# Altium footprint library SparkFun-Sensors.PCBLIB: 104 footprints (part 3 of 7)
Each footprint in its own frame and in the unit in brackets; x right, y up, seen from the top. Pads: shape width x height; smd on the part's side, far side on the other; paste and mask are expansions set on the pad; w line width, h text height; cw(c..) or ccw(c..) is an arc to the next point about the centre after c.
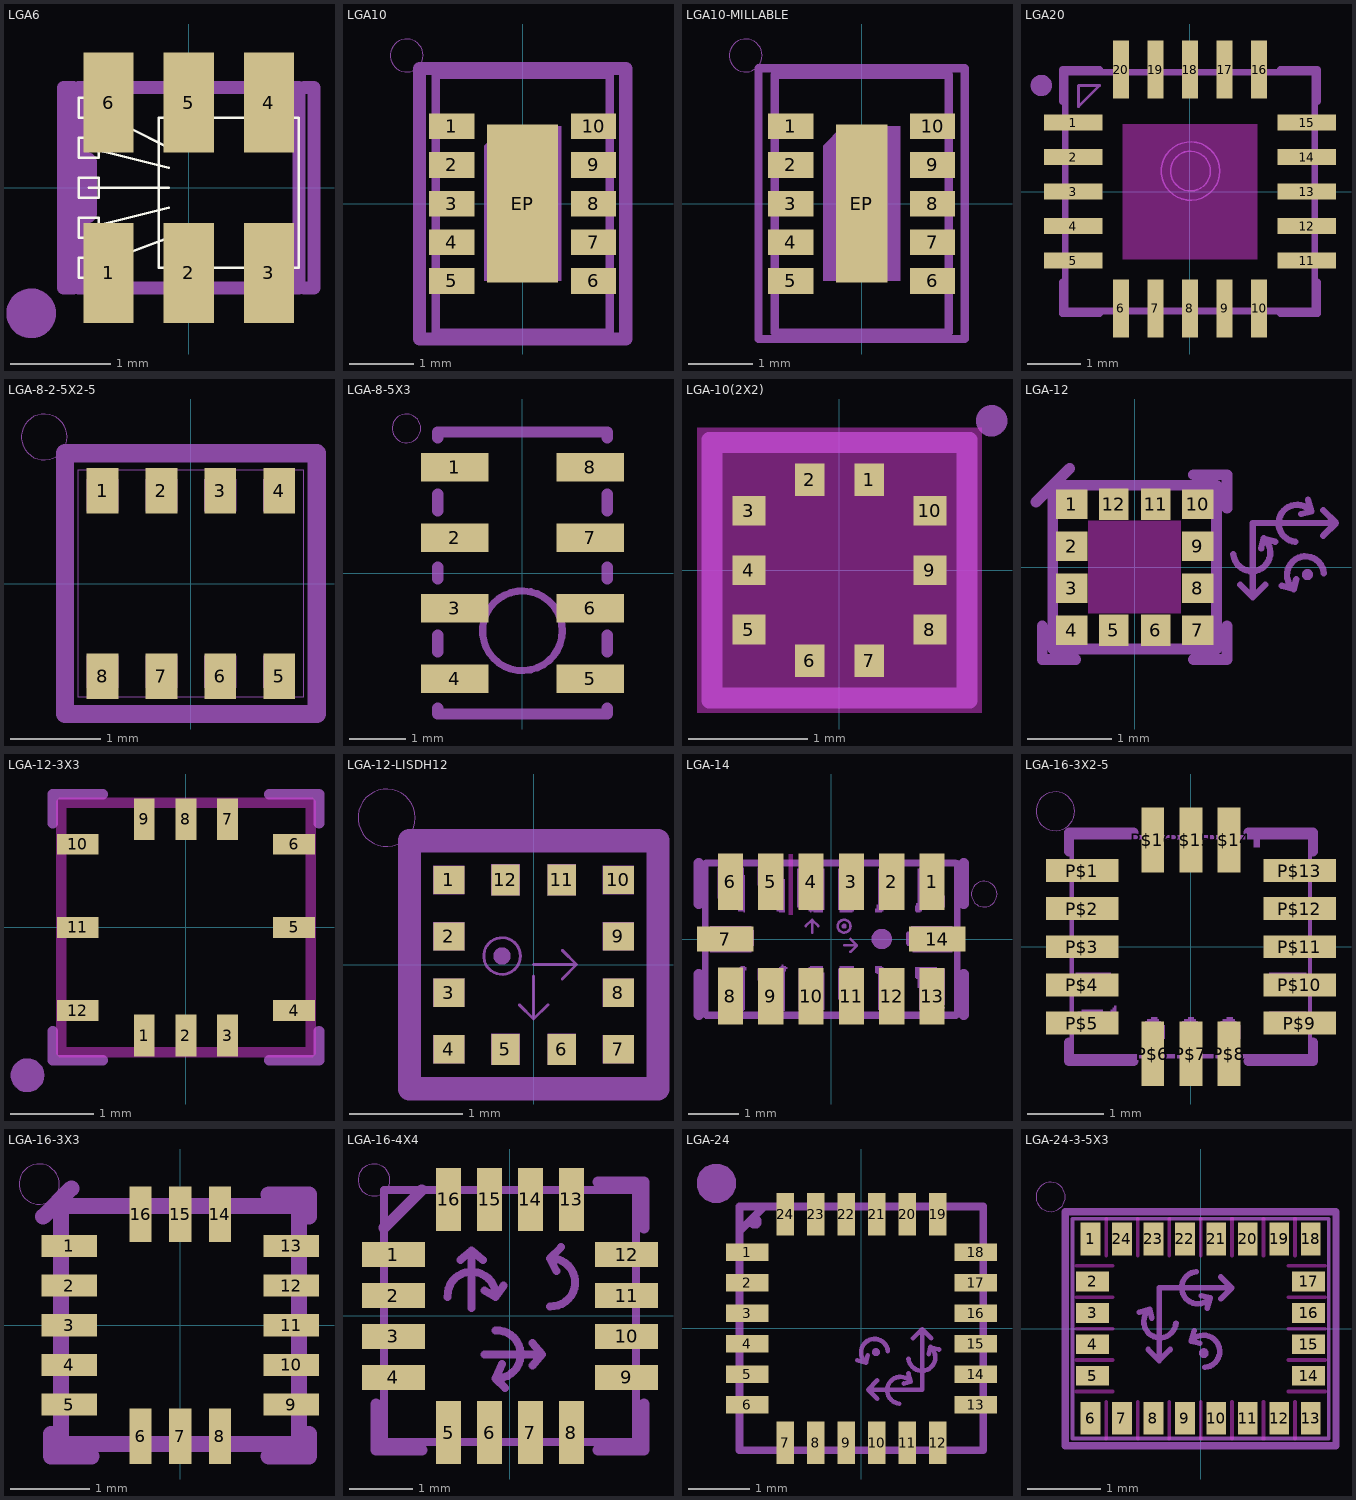
[diagram p2: the footprints below, top view; thin cyan lines are the x and y axes]

## LGA6 [mm]
pads (6):
  rect 0.5x1 smd: 1(-0.8,-0.85) 2(0,-0.85) 3(0.8,-0.85) 4(0.8,0.85) 5(0,0.85) 6(-0.8,0.85)
Top Overlay:
  lines w0.025: -1,-0.8 -0.2,-0.5 ; -1,-0.4 -0.2,-0.2 ; -1,0 -0.2,0 ; -1,0.4 -0.2,0.2 ; -1,0.8 -0.2,0.4 ; -1.1,-0.9 -0.9,-0.9 -0.9,-0.7 -1.1,-0.7 -1.1,-0.9 ; -1.1,-0.5 -0.9,-0.5 -0.9,-0.3 -1.1,-0.3 -1.1,-0.5 ; -1.1,-0.1 -0.9,-0.1 -0.9,0.1 -1.1,0.1 -1.1,-0.1 ; -1.1,0.3 -0.9,0.3 -0.9,0.5 -1.1,0.5 -1.1,0.3 ; -1.1,0.7 -0.9,0.7 -0.9,0.9 -1.1,0.9 -1.1,0.7 ; -0.3,-0.8 1.1,-0.8 1.1,0.7 -0.3,0.7 -0.3,-0.8
tDocu:
  region: -0.58,0.38 -1.02,0.38 -1.02,0.92 -0.58,0.92
  region: 0.22,0.38 -0.22,0.38 -0.22,0.92 0.22,0.92
  region: 1.02,0.38 0.58,0.38 0.58,0.92 1.02,0.92
  region: 0.22,-0.92 -0.22,-0.92 -0.22,-0.38 0.22,-0.38
  region: -0.58,-0.92 -1.02,-0.92 -1.02,-0.38 -0.58,-0.38
  region: 1.02,-0.92 0.58,-0.92 0.58,-0.38 1.02,-0.38
  lines w0.127: -1.1,-1 1.1,-1 1.1,1 -1.1,1 -1.1,-1
tPlace:
  circle w0.254: c-1.573,-1.254 r0.121
  lines w0.127: -1.15,-1 -1.25,-1 -1.25,1 -1.15,1 ; 1.15,-1 1.25,-1 1.25,1 1.15,1
  lines w0.203: -1.143,-0.889 -1.143,0.889 ; -1.016,-0.254 -1.016,0.254

## LGA10 [mm]
pads (11):
  rect 0.7x0.4 smd: 1(-1.1,1.2) 2(-1.1,0.6) 3(-1.1,0) 4(-1.1,-0.6) 5(-1.1,-1.2) 6(1.1,-1.2) 7(1.1,-0.6) 8(1.1,0) 9(1.1,0.6) 10(1.1,1.2)
  rect 1.1x2.45 smd paste+0 mask+0: EP(0,0)
Top Paste:
  region: -0.359,-0.3 -0.359,0.4 0.359,0.4 0.359,-0.3
Top Solder:
  region: -0.625,-1.225 -0.625,0.95 -0.35,1.225 0.625,1.225 0.625,-1.225
tDocu:
  region: 0.85,-0.15 0.85,0.15 1.35,0.15 1.35,-0.15
  region: 0.85,0.45 0.85,0.75 1.35,0.75 1.35,0.45
  region: 0.85,1.05 0.85,1.35 1.35,1.35 1.35,1.05
  region: 0.85,-0.75 0.85,-0.45 1.35,-0.45 1.35,-0.75
  region: 0.85,-1.35 0.85,-1.05 1.35,-1.05 1.35,-1.35
  region: -1.35,-0.15 -1.35,0.15 -0.85,0.15 -0.85,-0.15
  region: -1.35,-0.75 -1.35,-0.45 -0.85,-0.45 -0.85,-0.75
  region: -1.35,-1.35 -1.35,-1.05 -0.85,-1.05 -0.85,-1.35
  region: -1.35,0.45 -1.35,0.75 -0.85,0.75 -0.85,0.45
  region: -1.35,1.05 -1.35,1.35 -0.85,1.35 -0.85,1.05
  region: 0.6,1.2 0.6,-1.2 -0.6,-1.2 -0.6,0.9 -0.3,1.2
  lines w0.127: -1.35,-2 -1.35,2 1.35,2 1.35,-2 -1.35,-2
tPlace:
  circle w0: c-1.8,2.3 r0.255
  lines w0.203: -1.6,-2.1 -1.6,2.1 1.6,2.1 1.6,-2.1 -1.6,-2.1

## LGA10-MILLABLE [mil]
pads (11):
  rect 27.56x15.75 smd: 1(-43.31,47.24) 2(-43.31,23.62) 3(-43.31,0) 4(-43.31,-23.62) 5(-43.31,-47.24) 6(43.31,-47.24) 7(43.31,-23.62) 8(43.31,0) 9(43.31,23.62) 10(43.31,47.24)
  rect 31.5x96.46 smd paste+0 mask+0: EP(0,0)
Top Paste:
  region: -14.13,-11.81 -14.13,15.75 14.13,15.75 14.13,-11.81
Top Solder:
  region: -24.61,-48.23 -24.61,37.4 -13.78,48.23 24.61,48.23 24.61,-48.23
tDocu:
  region: 33.46,-5.91 33.46,5.91 53.15,5.91 53.15,-5.91
  region: 33.46,17.72 33.46,29.53 53.15,29.53 53.15,17.72
  region: 33.46,41.34 33.46,53.15 53.15,53.15 53.15,41.34
  region: 33.46,-29.53 33.46,-17.72 53.15,-17.72 53.15,-29.53
  region: 33.46,-53.15 33.46,-41.34 53.15,-41.34 53.15,-53.15
  region: -53.15,-5.91 -53.15,5.91 -33.46,5.91 -33.46,-5.91
  region: -53.15,-29.53 -53.15,-17.72 -33.46,-17.72 -33.46,-29.53
  region: -53.15,-53.15 -53.15,-41.34 -33.46,-41.34 -33.46,-53.15
  region: -53.15,17.72 -53.15,29.53 -33.46,29.53 -33.46,17.72
  region: -53.15,41.34 -53.15,53.15 -33.46,53.15 -33.46,41.34
  region: 23.62,47.24 23.62,-47.24 -23.62,-47.24 -23.62,35.43 -11.81,47.24
  lines w5: -53.15,-78.74 -53.15,78.74 53.15,78.74 53.15,-78.74 -53.15,-78.74
tPlace:
  circle w0: c-70.87,90.55 r10.04
  lines w5: -62.99,-82.68 -62.99,82.68 62.99,82.68 62.99,-82.68 -62.99,-82.68

## LGA20 [mm]
pads (20):
  rect 1.1x0.3 smd paste+0: 1(-2.2,1.3) 2(-2.2,0.65) 3(-2.2,0) 4(-2.2,-0.65) 5(-2.2,-1.3) 11(2.2,-1.3) 12(2.2,-0.65) 13(2.2,0) 14(2.2,0.65) 15(2.2,1.3)
  rect 0.3x1.1 smd paste+0: 6(-1.3,-2.2) 7(-0.65,-2.2) 8(0,-2.2) 9(0.65,-2.2) 10(1.3,-2.2) 16(1.3,2.3) 17(0.65,2.3) 18(0,2.3) 19(-0.65,2.3) 20(-1.3,2.3)
Top keep-out:
  region: -1.27,-1.27 -1.27,1.27 1.27,1.27 1.27,-1.27
Top Paste:
  region: -2.612,-0.763 -2.612,-0.537 -1.787,-0.537 -1.787,-0.763
  region: -2.612,-0.113 -2.612,0.113 -1.787,0.113 -1.787,-0.113
  region: -2.612,0.537 -2.612,0.763 -1.787,0.763 -1.787,0.537
  region: -2.612,1.187 -2.612,1.412 -1.787,1.412 -1.787,1.187
  region: -2.612,-1.412 -2.612,-1.187 -1.787,-1.187 -1.787,-1.412
  region: 1.187,-2.612 1.187,-1.787 1.412,-1.787 1.412,-2.612
  region: -0.763,-2.612 -0.763,-1.787 -0.537,-1.787 -0.537,-2.612
  region: 1.787,-1.412 1.787,-1.187 2.612,-1.187 2.612,-1.412
  region: 1.787,1.187 1.787,1.412 2.612,1.412 2.612,1.187
  region: 1.787,-0.763 1.787,-0.537 2.612,-0.537 2.612,-0.763
  region: 1.787,-0.113 1.787,0.113 2.612,0.113 2.612,-0.113
  region: 1.787,0.537 1.787,0.763 2.612,0.763 2.612,0.537
  region: 0.537,-2.612 0.537,-1.787 0.763,-1.787 0.763,-2.612
  region: -1.412,-2.612 -1.412,-1.787 -1.187,-1.787 -1.187,-2.612
  region: -0.113,-2.612 -0.113,-1.787 0.113,-1.787 0.113,-2.612
  region: -0.113,1.887 -0.113,2.712 0.113,2.712 0.113,1.887
  region: 0.537,1.887 0.537,2.712 0.763,2.712 0.763,1.887
  region: 1.187,1.887 1.187,2.712 1.412,2.712 1.412,1.887
  region: -0.763,1.887 -0.763,2.712 -0.537,2.712 -0.537,1.887
  region: -1.412,1.887 -1.412,2.712 -1.187,2.712 -1.187,1.887
tDocu:
  circle w0.03: c0.01,0.388 r0.375
  circle w0.03: c0.01,0.388 r0.55
  lines w0.05: -2.1,1.6 -1.7,2 -2.1,2 -2.1,1.6
  lines w0.127: -2.35,-2.25 2.35,-2.25 2.35,2.25 -2.35,2.25 -2.35,-2.25
tPlace:
  circle w0.2: c-2.8,2 r0.1
  lines w0.127: -2.4,-1.7 -2.4,-2.3 -1.7,-2.3 ; -2.4,1.7 -2.4,2.3 -1.7,2.3 ; 1.7,-2.3 2.4,-2.3 2.4,-1.7 ; 1.7,2.3 2.4,2.3 2.4,1.7

## LGA-8-2-5X2-5 [mm]
pads (8):
  rect 0.35x0.5 smd: 1(-0.975,1.025) 2(-0.325,1.025) 3(0.325,1.025) 4(0.975,1.025) 5(0.975,-1.025) 6(0.325,-1.025) 7(-0.325,-1.025) 8(-0.975,-1.025)
tDocu:
  region: -1.15,0.8 -1.15,1.15 -0.8,1.15 -0.8,0.8
  region: -0.5,0.8 -0.5,1.15 -0.15,1.15 -0.15,0.8
  region: 0.15,0.8 0.15,1.15 0.5,1.15 0.5,0.8
  region: 0.8,0.8 0.8,1.15 1.15,1.15 1.15,0.8
  region: -0.8,-0.8 -0.8,-1.15 -1.15,-1.15 -1.15,-0.8
  region: -0.15,-0.8 -0.15,-1.15 -0.5,-1.15 -0.5,-0.8
  region: 0.5,-0.8 0.5,-1.15 0.15,-1.15 0.15,-0.8
  region: 1.15,-0.8 1.15,-1.15 0.8,-1.15 0.8,-0.8
  lines w0.001: -1.25,-1.25 -1.25,1.25 1.25,1.25 1.25,-1.25 -1.25,-1.25
tPlace:
  circle w0: c-1.619,1.619 r0.254
  lines w0.203: -1.391,-1.441 -1.391,1.441 1.391,1.441 1.391,-1.441 -1.391,-1.441

## LGA-8-5X3 [mm]
pads (8):
  rect 1.2x0.5 smd: 1(-1.2,1.875) 2(-1.2,0.625) 3(-1.2,-0.625) 4(-1.2,-1.875) 5(1.2,-1.875) 6(1.2,-0.625) 7(1.2,0.625) 8(1.2,1.875)
tDocu:
  circle w0.127: c0,-1.025 r0.707
tPlace:
  circle w0: c-2.057,2.565 r0.254
  lines w0.203: -1.5,-2.4 -1.5,-2.5 1.5,-2.5 1.5,-2.4 ; -1.5,-1.4 -1.5,-1.1 ; -1.5,-0.1 -1.5,0.1 ; -1.5,1.1 -1.5,1.4 ; -1.5,2.4 -1.5,2.5 1.5,2.5 1.5,2.4 ; 1.5,-1.4 1.5,-1.1 ; 1.5,-0.1 1.5,0.1 ; 1.5,1.1 1.5,1.4

## LGA-10(2X2) [mm]
pads (10):
  rect 0.25x0.275 smd paste+0: 1(0.25,0.763) 2(-0.25,0.763) 6(-0.25,-0.763) 7(0.25,-0.763)
  rect 0.275x0.25 smd paste+0: 3(-0.763,0.5) 4(-0.763,0) 5(-0.763,-0.5) 8(0.763,-0.5) 9(0.763,0) 10(0.763,0.5)
Top keep-out:
  region: -1.2,-1.2 -1.2,1.2 1.2,1.2 1.2,-1.2
Top Paste:
  region: -0.875,0.4 -0.875,0.6 -0.65,0.6 -0.65,0.4
  region: -0.875,-0.1 -0.875,0.1 -0.65,0.1 -0.65,-0.1
  region: 0.35,-0.875 0.15,-0.875 0.15,-0.65 0.35,-0.65
  region: 0.15,0.875 0.35,0.875 0.35,0.65 0.15,0.65
  region: 0.875,-0.4 0.875,-0.6 0.65,-0.6 0.65,-0.4
  region: -0.35,0.875 -0.15,0.875 -0.15,0.65 -0.35,0.65
  region: -0.15,-0.875 -0.35,-0.875 -0.35,-0.65 -0.15,-0.65
  region: -0.875,-0.6 -0.875,-0.4 -0.65,-0.4 -0.65,-0.6
  region: 0.875,0.6 0.875,0.4 0.65,0.4 0.65,0.6
  region: 0.875,0.1 0.875,-0.1 0.65,-0.1 0.65,0.1
tDocu:
  lines w0.127: -1.05,-1.05 1.05,-1.05 1.05,1.05 -1.05,1.05 -1.05,-1.05
tPlace:
  circle w0.175: c1.282,1.258 r0.045
  lines w0.127: -1.1,-1.1 1.1,-1.1 1.1,1.1 -1.1,1.1 -1.1,-1.1

## LGA-12 [mm]
pads (12):
  rect 0.375x0.35 smd: 1(-0.75,0.75) 2(-0.75,0.25) 3(-0.75,-0.25) 4(-0.75,-0.75) 7(0.75,-0.75) 8(0.75,-0.25) 9(0.75,0.25) 10(0.75,0.75)
  rect 0.35x0.375 smd: 5(-0.25,-0.75) 6(0.25,-0.75) 11(0.25,0.75) 12(-0.25,0.75)
Top keep-out:
  region: -0.55,-0.55 -0.55,0.55 0.55,0.55 0.55,-0.55
tDocu:
  circle w0.076: c2.058,-0.089 r0.028
  region: 0.125,0.612 0.125,0.887 0.375,0.887 0.375,0.612
  region: -0.375,0.612 -0.375,0.887 -0.125,0.887 -0.125,0.612
  region: -0.613,0.125 -0.888,0.125 -0.888,0.375 -0.613,0.375
  region: -0.613,-0.375 -0.888,-0.375 -0.888,-0.125 -0.613,-0.125
  region: -0.613,-0.875 -0.888,-0.875 -0.888,-0.625 -0.613,-0.625
  region: -0.125,-0.612 -0.125,-0.887 -0.375,-0.887 -0.375,-0.612
  region: 0.375,-0.612 0.375,-0.887 0.125,-0.887 0.125,-0.612
  region: 0.613,-0.625 0.888,-0.625 0.888,-0.875 0.613,-0.875
  region: 0.613,-0.125 0.888,-0.125 0.888,-0.375 0.613,-0.375
  region: 0.613,0.375 0.888,0.375 0.888,0.125 0.613,0.125
  region: 0.613,0.875 0.888,0.875 0.888,0.625 0.613,0.625
  region: -0.887,0.625 -0.887,0.875 -0.612,0.875 -0.612,0.7 -0.688,0.625
  lines w0.076: 1.176,0.152 ccw(c1.395,0.172) 1.536,0.342 ; 1.256,-0.208 1.406,-0.358 1.556,-0.208 ; 1.406,-0.355 1.406,0.526 2.398,0.526 ; 1.506,0.222 1.536,0.342 ; 1.676,0.302 1.536,0.342 ; 1.754,-0.222 1.894,-0.262 ; 1.914,0.303 cw(c1.935,0.522) 2.104,0.663 ; 1.924,-0.142 1.894,-0.262 ; 1.985,0.633 2.104,0.663 ; 2.065,0.803 2.104,0.663 ; 2.248,0.376 2.398,0.526 ; 2.248,0.676 2.398,0.526 ; 2.254,-0.072 ccw(c2.035,-0.092) 1.894,-0.262
  lines w0.127: -0.975,-0.975 -0.975,0.975 0.975,0.975 0.975,-0.975 -0.975,-0.975
  text "X" at 2.585,0.516 h0.46
  text "Y" at 1.42,-0.59 h0.46
  text "Z" at 2.248,-0.299 h0.46
tPlace:
  lines w0.127: -1.175,0.775 -0.775,1.175 ; -1.1,-0.7 -1.1,-1.1 -0.7,-1.1 ; 0.7,-1.1 1.1,-1.1 1.1,-0.7 ; 0.7,1.1 1.1,1.1 1.1,0.7

## LGA-12-3X3 [mm]
pads (12):
  rect 0.25x0.5 smd: 1(-0.5,-1.3) 2(0,-1.3) 3(0.5,-1.3) 7(0.5,1.3) 8(0,1.3) 9(-0.5,1.3)
  rect 0.5x0.25 smd: 4(1.3,-1) 5(1.3,0) 6(1.3,1) 10(-1.3,1) 11(-1.3,0) 12(-1.3,-1)
Top keep-out:
  lines w0.127: -1.5,-1.5 -1.5,1.5 1.5,1.5 1.5,-1.5 -1.5,-1.5
tPlace:
  circle w0.203: c-1.905,-1.778 r0.102
  lines w0.127: -1.6,-1.25 -1.6,-1.6 -1,-1.6 ; -1.6,1.25 -1.6,1.6 -1,1.6 ; 1,-1.6 1.6,-1.6 1.6,-1.25 ; 1,1.6 1.6,1.6 1.6,1.25

## LGA-12-LISDH12 [mm]
pads (12):
  rect 0.275x0.25 smd: 1(-0.75,0.75) 2(-0.75,0.25) 3(-0.75,-0.25) 4(-0.75,-0.75) 7(0.75,-0.75) 8(0.75,-0.25) 9(0.75,0.25) 10(0.75,0.75)
  rect 0.25x0.275 smd: 5(-0.25,-0.75) 6(0.25,-0.75) 11(0.25,0.75) 12(-0.25,0.75)
tDocu:
  circle w0.025: c-0.279,0.076 r0.162
  circle w0.102: c-0.279,0.076 r0.025
  region: -0.375,0.612 -0.375,0.887 -0.125,0.887 -0.125,0.612
  region: 0.125,0.612 0.125,0.887 0.375,0.887 0.375,0.612
  region: -0.613,0.625 -0.888,0.625 -0.888,0.875 -0.613,0.875
  region: -0.613,0.125 -0.888,0.125 -0.888,0.375 -0.613,0.375
  region: -0.613,-0.375 -0.888,-0.375 -0.888,-0.125 -0.613,-0.125
  region: -0.613,-0.875 -0.888,-0.875 -0.888,-0.625 -0.613,-0.625
  region: -0.125,-0.612 -0.125,-0.887 -0.375,-0.887 -0.375,-0.612
  region: 0.375,-0.612 0.375,-0.887 0.125,-0.887 0.125,-0.612
  region: 0.888,-0.875 0.613,-0.875 0.613,-0.625 0.888,-0.625
  region: 0.888,-0.375 0.613,-0.375 0.613,-0.125 0.888,-0.125
  region: 0.888,0.125 0.613,0.125 0.613,0.375 0.888,0.375
  region: 0.888,0.625 0.613,0.625 0.613,0.875 0.888,0.875
  lines w0.003: -1,-1 -1,1 1,1 1,-1 -1,-1
  lines w0.025: -0.127,-0.356 0,-0.483 ; 0,-0.102 0,-0.483 ; 0,0 0.381,0 ; 0.127,-0.356 0,-0.483 ; 0.254,-0.127 0.381,0 ; 0.254,0.127 0.381,0
  text "X" at -0.127,-0.229 h0.2
  text "Y" at 0.051,0.051 h0.2
  text "Z" at -0.33,0.305 h0.2
tPlace:
  circle w0: c-1.301,1.301 r0.254
  lines w0.203: -1.102,-1.102 -1.102,1.102 1.102,1.102 1.102,-1.102 -1.102,-1.102

## LGA-14 [mm]
pads (14):
  rect 0.5x1.124 smd: 1(2,1.138) 2(1.2,1.138) 3(0.4,1.138) 4(-0.4,1.138) 5(-1.2,1.138) 6(-2,1.138) 8(-2,-1.131) 9(-1.2,-1.138) 10(-0.4,-1.138) 11(0.4,-1.138) 12(1.2,-1.138) 13(2,-1.138)
  rect 1.124x0.5 smd: 7(-2.1,0) 14(2.1,0)
Top keep-out:
  region: -0.838,0.483 -0.838,1.676 -0.762,1.676 -0.762,0.483
tDocu:
  circle w0.203: c1,0 r0.1
  circle w0.051: c0.254,0.254 r0.127
  circle w0.051: c0.254,0.254 r0.025
  lines w0.051: -0.508,0.254 -0.381,0.381 ; -0.381,0.127 -0.381,0.381 ; -0.254,0.254 -0.381,0.381 ; 0.254,-0.127 0.508,-0.127 ; 0.381,-0.254 0.508,-0.127 ; 0.381,0 0.508,-0.127
  lines w0.127: -2.5,-1.5 -2.5,1.5 2.5,1.5 2.5,-1.5 -2.5,-1.5
  text "X" at -0.127,-0.254 h0.47
  text "Y" at -0.508,-0.254 h0.47
  text "Z" at -0.127,0.127 h0.47
tPlace:
  circle w0: c3.032,0.889 r0.254
  lines w0.203: -2.627,-1.5 -2.627,-0.7 ; -2.627,0.7 -2.627,1.5 ; 2.627,-1.5 2.627,-0.7 ; 2.627,0.7 2.627,1.5
Mech68:
  drawing of 702 lines, arcs and shapes, not listed

## LGA-16-3X2-5 [mil]
pads (16):
  rect 37.5x11.81 smd: P$1(-56.15,39.37) P$2(-56.15,19.69) P$3(-56.15,0) P$4(-56.15,-19.69) P$5(-56.15,-39.37) P$9(56.15,-39.37) P$10(56.15,-19.69) P$11(56.15,0) P$12(56.15,19.69) P$13(56.15,39.37)
  rect 11.81x33.5 smd: P$6(-19.69,-55.2) P$7(0,-55.2) P$8(19.69,-55.2) P$14(19.69,55.2) P$15(0,55.2) P$16(-19.69,55.2)
tPlace:
  circle w0: c-70,70 r10
  lines w5: -62.99,-49.21 -62.99,-59.06 -29.53,-59.06 ; -62.99,49.21 -62.99,59.06 -29.53,59.06 ; 29.53,-59.06 62.99,-59.06 62.99,-49.21 ; 29.53,59.06 62.99,59.06 62.99,49.21
Mech68:
  drawing of 427 lines, arcs and shapes, not listed

## LGA-16-3X3 [mm]
pads (16):
  rect 0.7x0.28 smd: 1(-1.4,1) 2(-1.4,0.5) 3(-1.4,0) 4(-1.4,-0.5) 5(-1.4,-1) 9(1.4,-1) 10(1.4,-0.5) 11(1.4,0) 12(1.4,0.5) 13(1.4,1)
  rect 0.28x0.7 smd: 6(-0.5,-1.4) 7(0,-1.4) 8(0.5,-1.4) 14(0.5,1.4) 15(0,1.4) 16(-0.5,1.4)
tDocu:
  lines w0.203: -1.5,-1.5 -1.5,1.5 1.5,1.5 1.5,-1.5 -1.5,-1.5
tPlace:
  circle w0: c-1.778,1.778 r0.254
  lines w0.203: -1.728,1.369 -1.372,1.725 ; -1.627,-1.372 -1.627,-1.653 -1.119,-1.653 ; 1.116,-1.653 1.624,-1.653 1.624,-1.372 ; 1.116,1.649 1.624,1.649 1.624,1.369

## LGA-16-4X4 [mm]
pads (16):
  rect 1x0.4 smd: 1(-1.85,0.975) 2(-1.85,0.325) 3(-1.85,-0.325) 4(-1.85,-0.975) 9(1.85,-0.975) 10(1.85,-0.325) 11(1.85,0.325) 12(1.85,0.975)
  rect 0.4x1 smd: 5(-0.975,-1.85) 6(-0.325,-1.85) 7(0.325,-1.85) 8(0.975,-1.85) 13(0.975,1.85) 14(0.325,1.85) 15(-0.325,1.85) 16(-0.975,1.85)
tDocu:
  region: -1.9,0.175 -1.9,0.475 -1.5,0.475 -1.5,0.175
  region: -1.9,-0.475 -1.9,-0.175 -1.5,-0.175 -1.5,-0.475
  region: -1.9,-1.125 -1.9,-0.825 -1.5,-0.825 -1.5,-1.125
  region: -1.9,0.825 -1.9,1.125 -1.5,1.125 -1.5,0.825
  region: -0.175,-1.9 -0.475,-1.9 -0.475,-1.5 -0.175,-1.5
  region: 0.475,-1.9 0.175,-1.9 0.175,-1.5 0.475,-1.5
  region: 1.125,-1.9 0.825,-1.9 0.825,-1.5 1.125,-1.5
  region: -0.825,-1.9 -1.125,-1.9 -1.125,-1.5 -0.825,-1.5
  region: 1.9,-0.175 1.9,-0.475 1.5,-0.475 1.5,-0.175
  region: 1.9,0.475 1.9,0.175 1.5,0.175 1.5,0.475
  region: 1.9,1.125 1.9,0.825 1.5,0.825 1.5,1.125
  region: 1.9,-0.825 1.9,-1.125 1.5,-1.125 1.5,-0.825
  region: 0.175,1.9 0.475,1.9 0.475,1.5 0.175,1.5
  region: -0.475,1.9 -0.175,1.9 -0.175,1.5 -0.475,1.5
  region: -1.125,1.9 -0.825,1.9 -0.825,1.5 -1.125,1.5
  region: 0.825,1.9 1.125,1.9 1.125,1.5 0.825,1.5
  lines w0.127: -0.991,0.305 cw(c-0.61,0.323) -0.229,0.305 ; -0.787,0.889 -0.61,1.041 ; -0.61,0.127 -0.61,1.041 ; -0.432,0.889 -0.61,1.041 ; -0.406,-0.61 0.508,-0.61 ; -0.406,0.406 -0.229,0.305 ; -0.229,-0.229 cw(c-0.211,-0.61) -0.229,-0.991 ; -0.127,-0.762 -0.229,-0.991 ; -0.102,0.483 -0.229,0.305 ; -0.076,-1.143 -0.229,-0.991 ; 0.356,-0.787 0.508,-0.61 ; 0.356,-0.432 0.508,-0.61 ; 0.635,0.152 ccw(c0.653,0.533) 0.635,0.914 ; 0.737,0.711 0.635,0.914 ; 0.813,1.092 0.635,0.914 ; -2,-2 2,-2 2,2 -2,2 -2,-2
  text "Z" at 0.33,0.33 h0.63
  text "Y" at -0.356,0.711 h0.63
  text "X" at -0.762,-0.813 h0.63
tPlace:
  circle w0: c-2.159,2.159 r0.254
  lines w0.178: -2.127,-1.4 -2.127,-2.127 -1.4,-2.127 ; -2,1.4 -1.4,2 ; 1.4,-2.127 2.127,-2.127 2.127,-1.4 ; 1.4,2.127 2.127,2.127 2.127,1.4

## LGA-24 [mm]
pads (24):
  rect 0.7x0.29 smd: 1(-1.875,1.25) 2(-1.875,0.75) 3(-1.875,0.25) 4(-1.875,-0.25) 5(-1.875,-0.75) 6(-1.875,-1.25) 13(1.875,-1.25) 14(1.875,-0.75) 15(1.875,-0.25) 16(1.875,0.25) 17(1.875,0.75) 18(1.875,1.25)
  rect 0.29x0.7 smd: 7(-1.25,-1.875) 8(-0.75,-1.875) 9(-0.25,-1.875) 10(0.25,-1.875) 11(0.75,-1.875) 12(1.25,-1.875) 19(1.25,1.875) 20(0.75,1.875) 21(0.25,1.875) 22(-0.25,1.875) 23(-0.75,1.875) 24(-1.25,1.875)
tDocu:
  circle w0.127: c-1.75,1.75 r0.05
  circle w0.076: c0.238,-0.389 r0.028
  region: -0.35,-1.9 -0.35,-1.55 -0.15,-1.55 -0.15,-1.9
  region: 0.15,-1.9 0.15,-1.55 0.35,-1.55 0.35,-1.9
  region: 0.65,-1.9 0.65,-1.55 0.85,-1.55 0.85,-1.9
  region: 1.15,-1.9 1.15,-1.55 1.35,-1.55 1.35,-1.9
  region: -0.85,-1.9 -0.85,-1.55 -0.65,-1.55 -0.65,-1.9
  region: -1.35,-1.9 -1.35,-1.55 -1.15,-1.55 -1.15,-1.9
  region: 0.35,1.9 0.35,1.55 0.15,1.55 0.15,1.9
  region: -0.15,1.9 -0.15,1.55 -0.35,1.55 -0.35,1.9
  region: -0.65,1.9 -0.65,1.55 -0.85,1.55 -0.85,1.9
  region: -1.15,1.9 -1.15,1.55 -1.35,1.55 -1.35,1.9
  region: 0.85,1.9 0.85,1.55 0.65,1.55 0.65,1.9
  region: 1.35,1.9 1.35,1.55 1.15,1.55 1.15,1.9
  region: -1.9,0.15 -1.9,0.35 -1.55,0.35 -1.55,0.15
  region: -1.9,-0.35 -1.9,-0.15 -1.55,-0.15 -1.55,-0.35
  region: -1.9,0.65 -1.9,0.85 -1.55,0.85 -1.55,0.65
  region: -1.9,1.15 -1.9,1.35 -1.55,1.35 -1.55,1.15
  region: -1.9,-0.85 -1.9,-0.65 -1.55,-0.65 -1.55,-0.85
  region: -1.9,-1.35 -1.9,-1.15 -1.55,-1.15 -1.55,-1.35
  region: 1.9,-0.15 1.9,-0.35 1.55,-0.35 1.55,-0.15
  region: 1.9,0.35 1.9,0.15 1.55,0.15 1.55,0.35
  region: 1.9,-0.65 1.9,-0.85 1.55,-0.85 1.55,-0.65
  region: 1.9,-1.15 1.9,-1.35 1.55,-1.35 1.55,-1.15
  region: 1.9,0.85 1.9,0.65 1.55,0.65 1.55,0.85
  region: 1.9,1.35 1.9,1.15 1.55,1.15 1.55,1.35
  lines w0.076: -0.066,-0.522 0.074,-0.562 ; 0.104,-0.442 0.074,-0.562 ; 0.115,-1.004 0.996,-1.004 0.996,-0.012 ; 0.262,-1.154 0.112,-1.004 0.262,-0.854 ; 0.434,-0.372 ccw(c0.215,-0.393) 0.074,-0.562 ; 0.622,-1.234 cw(c0.643,-1.015) 0.812,-0.874 ; 0.692,-0.904 0.812,-0.874 ; 0.772,-0.734 0.812,-0.874 ; 0.773,-0.496 ccw(c0.992,-0.475) 1.133,-0.306 ; 0.846,-0.162 0.996,-0.012 ; 1.103,-0.426 1.133,-0.306 ; 1.146,-0.162 0.996,-0.012 ; 1.273,-0.346 1.133,-0.306
  lines w0.127: -2,-2 -2,2 2,2 2,-2 -2,-2
  text "X" at 0.995,0.166 h0.46
  text "Y" at -0.05,-1 h0.46
  text "Z" at -0.222,-0.149 h0.46
tPlace:
  region: -2.381,2.064 -2.318,2.064 -2.201,2.112 -2.112,2.201 -2.064,2.318 -2.064,2.381 -2.064,2.444 -2.112,2.561 -2.201,2.65 -2.318,2.699 -2.381,2.699 -2.444,2.699 -2.561,2.65 -2.65,2.561 -2.699,2.444 -2.699,2.381 -2.699,2.318 -2.65,2.201 -2.561,2.112 -2.444,2.064 -2.381,2.064
  lines w0.127: -2,-1.6 -2,-2 -1.6,-2 ; -2,1.6 -1.6,2 ; 1.6,-2 2,-2 2,-1.6 ; 1.6,2 2,2 2,1.6

## LGA-24-3-5X3 [mm]
pads (24):
  rect 0.27x0.45 smd: 1(-1.505,1.225) 6(-1.505,-1.225) 7(-1.075,-1.225) 8(-0.645,-1.225) 9(-0.215,-1.225) 10(0.215,-1.225) 11(0.645,-1.225) 12(1.075,-1.225) 13(1.505,-1.225) 18(1.505,1.225) 19(1.075,1.225) 20(0.645,1.225) 21(0.215,1.225) 22(-0.215,1.225) 23(-0.645,1.225) 24(-1.075,1.225)
  rect 0.45x0.27 smd: 2(-1.475,0.645) 3(-1.475,0.215) 4(-1.475,-0.215) 5(-1.475,-0.645) 14(1.475,-0.645) 15(1.475,-0.215) 16(1.475,0.215) 17(1.475,0.645)
Top keep-out:
  lines w0.051: -1.7,-0.86 -1.2,-0.86 ; -1.7,-0.43 -1.2,-0.43 ; -1.7,0 -1.2,0 ; -1.7,0.43 -1.2,0.43 ; -1.7,0.86 -1.2,0.86 ; -1.29,-1.5 -1.29,-1 ; -1.29,1 -1.29,1.5 ; -0.86,-1.5 -0.86,-1 ; -0.86,1 -0.86,1.5 ; -0.43,-1.5 -0.43,-1 ; -0.43,1 -0.43,1.5 ; 0,-1.5 0,-1 ; 0,1 0,1.5 ; 0.43,-1.5 0.43,-1 ; 0.43,1 0.43,1.5 ; 0.86,-1.5 0.86,-1 ; 0.86,1 0.86,1.5 ; 1.2,-0.86 1.7,-0.86 ; 1.2,-0.43 1.7,-0.43 ; 1.2,0 1.7,0 ; 1.2,0.43 1.7,0.43 ; 1.2,0.86 1.7,0.86 ; 1.29,-1.5 1.29,-1 ; 1.29,1 1.29,1.5
tDocu:
  circle w0.076: c0.043,-0.334 r0.028
  region: 1.39,1.05 1.39,1.4 1.62,1.4 1.62,1.05
  region: 0.96,1.05 0.96,1.4 1.19,1.4 1.19,1.05
  region: 0.53,1.05 0.53,1.4 0.76,1.4 0.76,1.05
  region: 0.1,1.05 0.1,1.4 0.33,1.4 0.33,1.05
  region: -0.33,1.05 -0.33,1.4 -0.1,1.4 -0.1,1.05
  region: -0.76,1.05 -0.76,1.4 -0.53,1.4 -0.53,1.05
  region: -1.19,1.05 -1.19,1.4 -0.96,1.4 -0.96,1.05
  region: -1.62,1.05 -1.62,1.4 -1.39,1.4 -1.39,1.05
  region: -1.39,-1.05 -1.39,-1.4 -1.62,-1.4 -1.62,-1.05
  region: -0.96,-1.05 -0.96,-1.4 -1.19,-1.4 -1.19,-1.05
  region: -0.53,-1.05 -0.53,-1.4 -0.76,-1.4 -0.76,-1.05
  region: -0.1,-1.05 -0.1,-1.4 -0.33,-1.4 -0.33,-1.05
  region: 0.33,-1.05 0.33,-1.4 0.1,-1.4 0.1,-1.05
  region: 0.76,-1.05 0.76,-1.4 0.53,-1.4 0.53,-1.05
  region: 1.19,-1.05 1.19,-1.4 0.96,-1.4 0.96,-1.05
  region: 1.62,-1.05 1.62,-1.4 1.39,-1.4 1.39,-1.05
  region: -1.65,0.53 -1.65,0.76 -1.3,0.76 -1.3,0.53
  region: -1.65,0.1 -1.65,0.33 -1.3,0.33 -1.3,0.1
  region: -1.65,-0.33 -1.65,-0.1 -1.3,-0.1 -1.3,-0.33
  region: -1.65,-0.76 -1.65,-0.53 -1.3,-0.53 -1.3,-0.76
  region: 1.65,-0.53 1.65,-0.76 1.3,-0.76 1.3,-0.53
  region: 1.65,-0.1 1.65,-0.33 1.3,-0.33 1.3,-0.1
  region: 1.65,0.33 1.65,0.1 1.3,0.1 1.3,0.33
  region: 1.65,0.76 1.65,0.53 1.3,0.53 1.3,0.76
  lines w0.051: -1.75,-1.5 -1.75,1.5 1.75,1.5 1.75,-1.5 -1.75,-1.5
  lines w0.076: -0.837,0.225 -0.697,0.265 ; -0.717,-0.285 -0.567,-0.435 -0.417,-0.285 ; -0.667,0.145 -0.697,0.265 ; -0.567,-0.432 -0.567,0.556 0.425,0.556 ; -0.337,0.075 cw(c-0.556,0.095) -0.697,0.265 ; -0.09,-0.03 -0.13,-0.17 ; -0.059,0.78 ccw(c-0.038,0.56) 0.131,0.419 ; -0.01,-0.2 -0.13,-0.17 ; 0.011,0.449 0.131,0.419 ; 0.06,-0.53 ccw(c0.04,-0.311) -0.13,-0.17 ; 0.091,0.279 0.131,0.419 ; 0.275,0.406 0.425,0.556 ; 0.275,0.706 0.425,0.556
  text "X" at 0.603,0.557 h0.46
  text "Y" at -0.571,-0.647 h0.46
  text "Z" at 0.354,0.063 h0.46
tPlace:
  circle w0: c-2.05,1.8 r0.2
  lines w0.102: -1.85,-1.6 1.85,-1.6 1.85,1.6 -1.85,1.6 -1.85,-1.6